# EAGLE library part LSM303DLHC (library st)
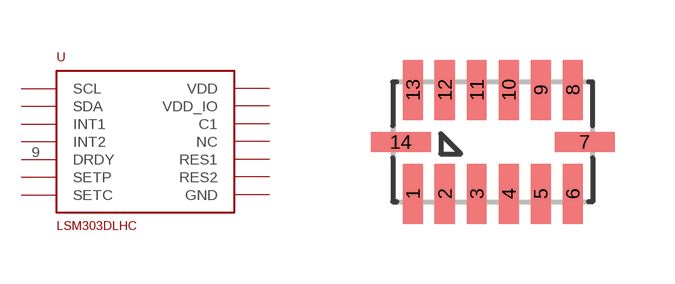
[diagram p5: symbol with the pads of LGA14; footprint LGA14]

Designator prefix -

## LSM303DLHC  [LGA14]
1  VDD_IO  pwr
2  SCL
3  SDA
4  INT2
5  INT1
6  C1
7  GND  pwr
8  NC  nc
9  DRDY
10  RES1
11  RES2
12  SETP
13  SETC
14  VDD  pwr

## Footprint LGA14 (pad centres in mm)
smd 0.5 x 1.5: 1 -2,-1.3; 2 -1.2,-1.3; 3 -0.4,-1.3; 4 0.4,-1.3; 5 1.2,-1.3; 6 2,-1.3; 8 2,1.3; 9 1.2,1.3; 10 0.4,1.3; 11 -0.4,1.3; 12 -1.2,1.3; 13 -2,1.3
smd 1.5 x 0.5: 7 2.3,0; 14 -2.3,0